# Altium integrated library RaesLib.IntLib: 18 symbols
Pins are listed as number, name and electrical type; pins without a type are passive.

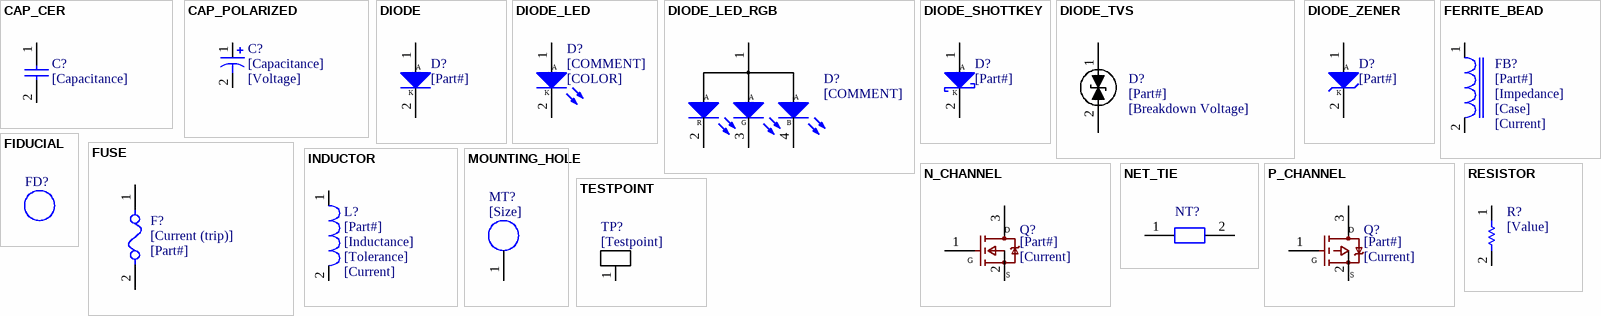
[diagram p0: symbols CAP_CER to TESTPOINT]

## CAP_CER
designator C?, comment [Capacitance]
Generic SMT Ceramic Capacitor; Voltage - Rated: [Voltage]; Operating Temperature: *; Tolerance: *; Mfr: *; ComponentLink1Description: Digikey; ComponentLink1URL: [Digikey Link]; Digikey Part No: *; ComponentLink2Description: Datasheet; ComponentLink2URL: [Datasheet Link]; Footprint: [Package]
footprint CAP_0603
footprint CAP_0402
footprint CAP_0805 (Generic 0805 capacitor)
footprint CAP_1206
footprint CAP_0201
pins: 1, 2

## CAP_POLARIZED
designator C?, comment [Capacitance]  Rated Voltage: [Voltage]
Polarized Capacitor; Mfr: *; Tolerance: *; Operating Temperature: *; Digikey Part Number: *
pins: 1, 2
1 alternate drawing of the same symbol

## DIODE
designator D?, comment [Part#]
Generic Diode; Diode Type: *; Current: *; Package / Case: *; Reverse Voltage: *; Forward Voltage: *
pins: 1 A, 2 K

## DIODE_LED
designator D?, comment [COMMENT]  Color: [COLOR]
Generic LED; Forward Voltage: *; Wavelength: *
footprint LED_0402
footprint LED_0603
pins: 1 A, 2 K

## DIODE_LED_RGB
designator D?, comment [COMMENT]
Common Anode Generic RGB LED; Forward Current: *; Forward Voltage: *; Operating Temperature: *
footprint LED_5mm_RGB_CA
pins: 1 A, 2 R, 3 G, 4 B

## DIODE_SHOTTKEY
designator D?, comment [Part#]
Generic Shottkey Diode; Diode Type: *; Current: *; Package / Case: *; Reverse Voltage: *; Forward Voltage: *
pins: 1 A, 2 K

## DIODE_TVS
designator D?, comment [Part#]  Voltage - Breakdown: [Breakdown Voltage]
Generic Bidirectional TVS Diode; Mfr: *; Voltage - Reverse: *; Operating Temperature: *; Package / Case: *; Current: *
pins: 1 A, 2 C

## DIODE_ZENER
designator D?, comment [Part#]
Generic Zener Diode; Diode Type: *; Current: *; Package / Case: *; Reverse Voltage: *; Forward Voltage: *
pins: 1 A, 2 K

## FERRITE_BEAD
designator FB?, comment [Part#]  Impedance @ Freq: [Impedance]  Package / Case: [Case]  Current Rating: [Current]
Generic Inductor; Resistance: *; Operating Temperature: *; Rating: *
pins: 1, 2

## FIDUCIAL
designator FD?
footprint FIDUCIAL

## FUSE
designator F?, comment [Part#]  Current - Trip: [Current (trip)]
Generic Fuse / Polyswitch
pins: 1, 2

## INDUCTOR
designator L?, comment [Part#]  Inductance: [Inductance]  Tolerance: [Tolerance]  Current Rating: [Current]
Generic Inductor; Material: *; Resistance: *; Operating Temperature: *; Package / Case: *
pins: 1, 2

## MOUNTING_HOLE
designator MT?, comment [Size]  (mechanical)
footprint MTH_M2
footprint MTH_M2_5
footprint MTH_M3
footprint MTH_M4
footprint MTH_M6
pins: 1

## N_CHANNEL
designator Q?, comment [Part#]  Current: [Current]
N-Channel  Enhancement Mode Field Effect Transistor; Mfr: *; Package / Case: *; Vds: *; Rds ON: *; Vgs: *; Operating Temperature: *
pins: 1, 2, 3
text: D; G; S

## NET_TIE
designator NT?, comment Net Tie  (value not drawn)  (net tie, no BOM)
pins: 1, 2

## P_CHANNEL
designator Q?, comment [Part#]  Current: [Current]
P-Channel  Enhancement Mode Field Effect Transistor; Mfr: *; Package / Case: *; Vds: *; Rds ON: *; Vgs: *; Operating Temperature: *
pins: 1 G, 2 S, 3 D

## RESISTOR
designator R?, comment [Value]
Resistor; Power: [Power]; Tolerance: [Tolerance]; Automotive: *; Operating Temperature: *; # Digikey: *; ComponentLink1Description: Digikey; ComponentLink1URL: *; # Manufacturer: *; Package / Case: [Package]
footprint RES_0402 (0402 Generic Resistor)
footprint RES_0603
footprint RES_0805
footprint RES_1206
footprint RES_1210
footprint RES_2512
pins: 1, 2

## TESTPOINT
designator TP?, comment [Testpoint]  (no BOM)
Test Point
footprint TP_HOLE
footprint TP_PAD
footprint TP_PAD_SMALL
pins: 1 A